# Altium schematic symbol library Schlib1.SchLib: 2 symbols
Pins are listed as number, name and electrical type; pins without a type are passive.

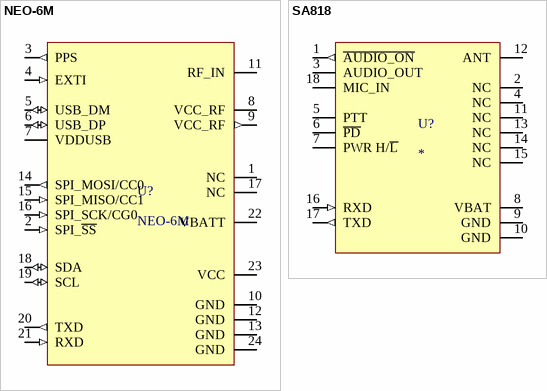
[diagram p0: symbols NEO-6M to SA818]

## NEO-6M
designator U?
NEO-6 series of GPS module
footprint NEO-6M (GPS Module)
pins: 1 NC, 2 SPI_~{SS} (in), 3 PPS (out), 4 EXTI (in), 5 USB_DM (io), 6 USB_DP (io), 7 VDDUSB, 8 VCC_RF, 9 VCC_RF (out), 10 GND, 11 RF_IN, 12 GND, 13 GND, 14 SPI_MOSI/CC0 (out), 15 SPI_MISO/CC1 (in), 16 SPI_SCK/CG0 (in), 17 NC, 18 SDA (io), 19 SCL (io), 20 TXD (out), 21 RXD (in), 22 VBATT, 23 VCC, 24 GND

## SA818
designator U?
1W Embedded Small Size Walkie Talkie
footprint SA818
pins: 1 ~{AUDIO_ON} (out), 2 NC, 3 AUDIO_OUT, 4 NC, 5 PTT, 6 ~{PD}, 7 PWR H/~{L}, 8 VBAT, 9 GND, 10 GND, 11 NC, 12 ANT, 13 NC, 14 NC, 15 NC, 16 RXD (in), 17 TXD (out), 18 MIC_IN